# EAGLE library part USB_MICRO_B_BPTH (library SHC)
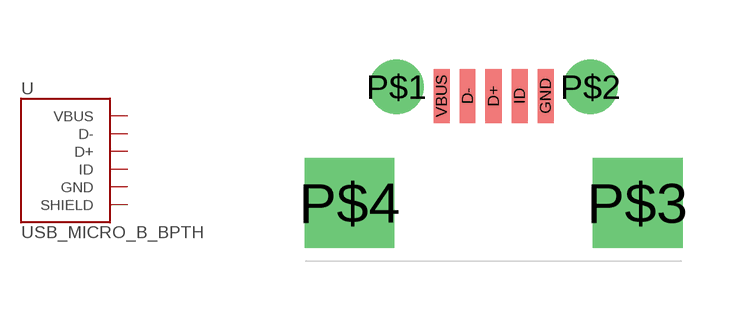
[diagram p49: symbol with the pads of USB_MICRO_B_BPTH; footprint USB_MICRO_B_BPTH]

Designator prefix -

## USB_MICRO_B_BPTH  [USB_MICRO_B_BPTH]
D+  D+
D-  D-
GND  GND
ID  ID
P$1  SHIELD
P$2  SHIELD
P$3  SHIELD
P$4  SHIELD
VBUS  VBUS

## Footprint USB_MICRO_B_BPTH (pad centres in mm)
smd 0.4 x 1.35: D+ 0,2.675; D- -0.65,2.675; GND 1.3,2.675; ID 0.65,2.675; VBUS -1.3,2.675
drill 0.85 pad 1.25: P$1 -2.425,2.9; P$2 2.425,2.9
drill 1.5 pad 2.1 square: P$3 3.6,0; P$4 -3.6,0